# EAGLE library part MCP4726 (library Microchip)
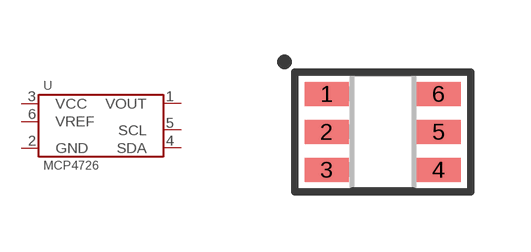
[diagram p7: symbol with the pads of SOT-23-6; footprint SOT-23-6]

Designator prefix U

## MCP4726A0T-E/CH  [SOT-23-6]
1  VOUT
2  GND
3  VCC
4  SDA
5  SCL
6  VREF

## Footprint SOT-23-6 (pad centres in mm)
smd 1.1 x 0.6: 1 -1.4,0.95; 2 -1.4,0; 3 -1.4,-0.95; 4 1.4,-0.95; 5 1.4,0; 6 1.4,0.95